# Altium schematic symbol library SCH - POWER - SUPPLY - TDK15-24D15W.SchLib: 1 symbol
Pins are listed as number, name and electrical type; pins without a type are passive.

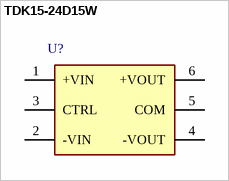
[diagram p0: symbol TDK15-24D15W]

## TDK15-24D15W
designator U?
pins: 1 +VIN (power), 2 -VIN (power), 3 CTRL, 4 -VOUT (power), 5 COM, 6 +VOUT (power)